# Altium schematic symbol library TLE49462KHTSA1.SchLib: 2 symbols
Pins are listed as number, name and electrical type; pins without a type are passive.

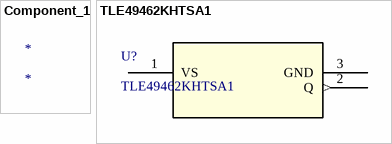
[diagram p0: symbols Component_1 to TLE49462KHTSA1]

## Component_1
designator *

## TLE49462KHTSA1
designator U?
No Description Available; Mfr_Name: Infineon; Copyright: Copyright (C) 2021 Ultra Librarian. All rights reserved.; Manufacturer_Part_Number: TLE49462KHTSA1; RefDes: RefDes; Type: DEV
footprint PG-SC59_INF
pins: 1 VS (power), 2 Q (out), 3 GND